# Altium schematic symbol library THERMISTOR.SchLib: 1 symbol
Pins are listed as number, name and electrical type; pins without a type are passive.

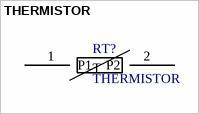
[diagram p0: symbol THERMISTOR]

## THERMISTOR
designator RT?
Thermistor symbol
pins: 1 P1, 2 P2
text: T